# EAGLE library part BQ77908ADBT (library LinnesLab-Power)
EAGLE Model of BQ77908ADBT - multi-cell balancing and protector for Li-Ion / Li-Po batteries. Symbol made in-house while footprint is taken from SnapEDA.
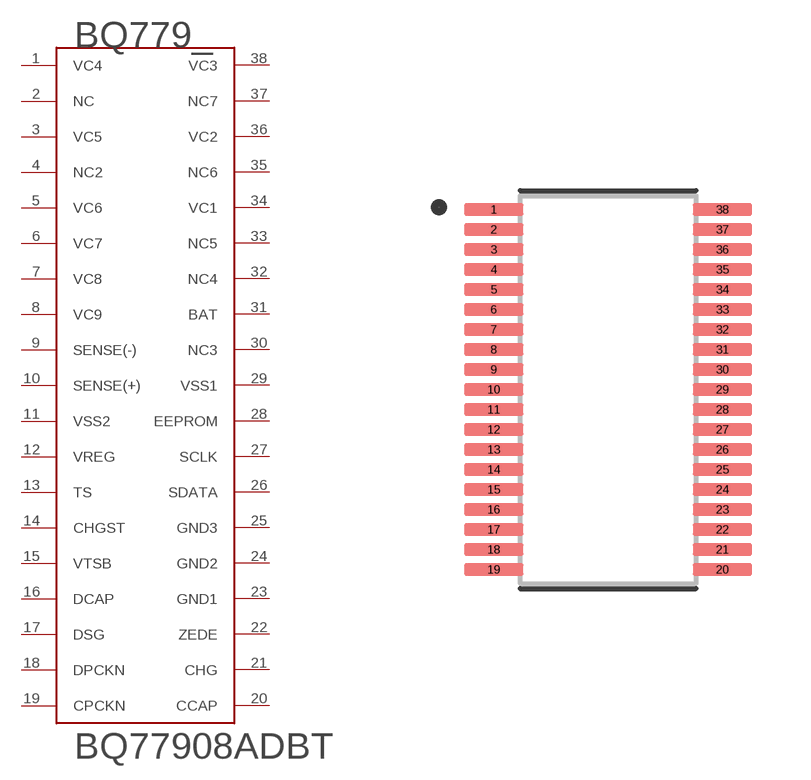
[diagram p10: symbol with the pads of BQ77908ADBT; footprint BQ77908ADBT]

Designator prefix BQ779_

## BQ77908ADBTSMD  [BQ77908ADBT]
1  VC4
2  NC  nc
3  VC5
4  NC2  nc
5  VC6
6  VC7
7  VC8
8  VC9
9  SENSE(-)
10  SENSE(+)
11  VSS2
12  VREG
13  TS
14  CHGST
15  VTSB
16  DCAP
17  DSG
18  DPCKN
19  CPCKN
20  CCAP
21  CHG
22  ZEDE
23  GND1
24  GND2
25  GND3
26  SDATA
27  SCLK
28  EEPROM
29  VSS1
30  NC3  nc
31  BAT
32  NC4  nc
33  NC5  nc
34  VC1
35  NC6  nc
36  VC2
37  NC7  nc
38  VC3

## Footprint BQ77908ADBT (pad centres in mm)
smd 1.49 x 0.31: 1 -2.86,4.5; 2 -2.86,4; 3 -2.86,3.5; 4 -2.86,3; 5 -2.86,2.5; 6 -2.86,2; 7 -2.86,1.5; 8 -2.86,1; 9 -2.86,0.5; 10 -2.86,0; 11 -2.86,-0.5; 12 -2.86,-1; 13 -2.86,-1.5; 14 -2.86,-2; 15 -2.86,-2.5; 16 -2.86,-3; 17 -2.86,-3.5; 18 -2.86,-4; 19 -2.86,-4.5; 20 2.86,-4.5; 21 2.86,-4; 22 2.86,-3.5; 23 2.86,-3; 24 2.86,-2.5; 25 2.86,-2; 26 2.86,-1.5; 27 2.86,-1; 28 2.86,-0.5; 29 2.86,0; 30 2.86,0.5; 31 2.86,1; 32 2.86,1.5; 33 2.86,2; 34 2.86,2.5; 35 2.86,3; 36 2.86,3.5; 37 2.86,4; 38 2.86,4.5